# EAGLE library part IN-12B_SOCKET (library Group Electornics Library v80)
IN-12B: medium numeric topview nixie tube
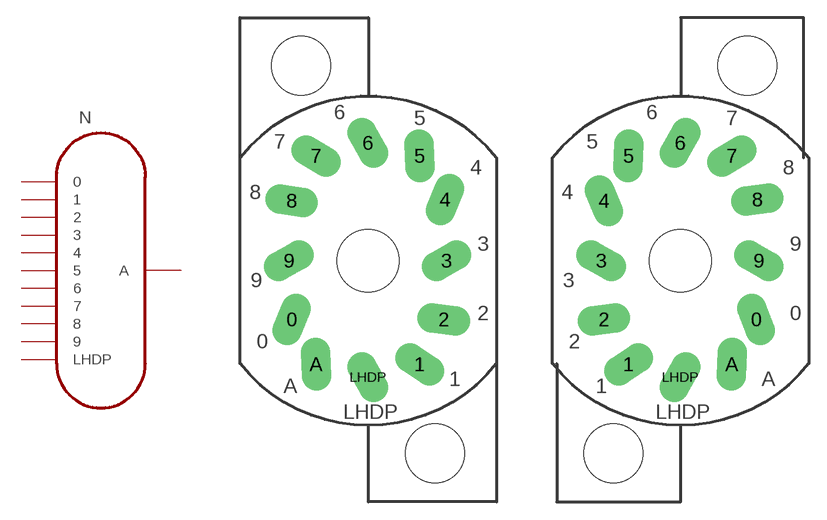
[diagram p2: symbol with the pads of IN-12B_SOCKET_BACKWARDS; footprints IN-12B_SOCKET_BACKWARDS, IN-12B_SOCKET_FORWARDS]

Designator prefix N

## IN-12B_SOCKETBACKWARDS  [IN-12B_SOCKET_BACKWARDS]
0  0
1  1
2  2
3  3
4  4
5  5
6  6
7  7
8  8
9  9
A  A
LHDP  LHDP

## IN-12B_SOCKETFORWARDS  [IN-12B_SOCKET_FORWARDS]
Pads as for IN-12B_SOCKET_BACKWARDS

## Footprint IN-12B_SOCKET_BACKWARDS (pad centres in mm)
May be used with socket: SK-136
drill 1 pad 2.5 slot 3 rotated 68: 0 -6.5,-5.1
drill 1 pad 2.5 slot 3 rotated 146: 1 4.383,-8.918
drill 1 pad 2.5 slot 3 rotated 172: 2 6.447,-5.1; 8 -6.5,5
drill 1 pad 2.5 slot 3 rotated 30: 3 6.675,-0.1; 9 -6.727,-0.1
drill 1 pad 2.5 slot 3 rotated 67: 4 6.548,5.1
drill 1 pad 2.5 slot 3 rotated 93: 5 4.383,8.818; A -4.418,-8.918
drill 1 pad 2.5 slot 3 rotated 120: 6 -0.018,9.918; LHDP -0.018,-10.018
drill 1 pad 2.5 slot 3 rotated 149: 7 -4.418,8.818
hole 5 at -5.7,16.5
hole 5 at 5.7,-16.5
hole 5.3 at 0,-0.1

## Footprint IN-12B_SOCKET_FORWARDS (pad centres in mm)
May be used with socket: SK-136
drill 1 pad 2.5 slot 3 rotated 112: 0 6.447,-5.235
drill 1 pad 2.5 slot 3 rotated 34: 1 -4.418,-9.053
drill 1 pad 2.5 slot 3 rotated 8: 2 -6.5,-5.235; 8 6.548,4.965
drill 1 pad 2.5 slot 3 rotated 150: 3 -6.727,-0.235; 9 6.675,-0.235
drill 1 pad 2.5 slot 3 rotated 113: 4 -6.5,4.865
drill 1 pad 2.5 slot 3 rotated 87: 5 -4.418,8.682; A 4.383,-9.053
drill 1 pad 2.5 slot 3 rotated 60: 6 -0.018,9.783; LHDP -0.018,-10.152
drill 1 pad 2.5 slot 3 rotated 31: 7 4.383,8.682
hole 5 at 5.7,16.365
hole 5 at -5.7,-16.635
hole 5.3 at 0,-0.235